# EAGLE library part 61301225721 (library Wuerth_Elektronik_eiCan_Pin_&_Socked_Headers_v1.3)
WR-PHD 2.54mm Dual Socket Header Bottom Entry, 12 Pins
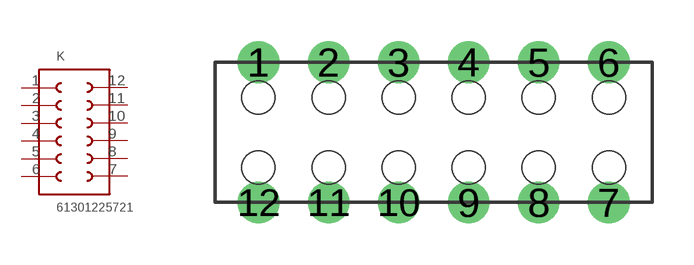
[diagram p194: symbol with the pads of 61301225721; footprint 61301225721]

Designator prefix K

## 61301225721  [61301225721]
1  1  pas
2  2  pas
3  3  pas
4  4  pas
5  5  pas
6  6  pas
7  7  pas
8  8  pas
9  9  pas
10  10  pas
11  11  pas
12  12  pas

## Footprint 61301225721 (pad centres in mm)
WR-PHD 2.54mm Dual Socket Header Bottom Entry, 12 Pins
drill 1 round: 1 -6.35,2.54; 2 -3.81,2.54; 3 -1.27,2.54; 4 1.27,2.54; 5 3.81,2.54; 6 6.35,2.54; 7 6.35,-2.54; 8 3.81,-2.54; 9 1.27,-2.54; 10 -1.27,-2.54; 11 -3.81,-2.54; 12 -6.35,-2.54
hole 1.2 at -6.35,1.27
hole 1.2 at -3.81,1.27
hole 1.2 at -1.27,1.27
hole 1.2 at 1.27,1.27
hole 1.2 at 3.81,1.27
hole 1.2 at 6.35,1.27
hole 1.2 at 6.35,-1.27
hole 1.2 at 3.81,-1.27
hole 1.2 at 1.27,-1.27
hole 1.2 at -1.27,-1.27
hole 1.2 at -3.81,-1.27
hole 1.2 at -6.35,-1.27